# Altium footprint library Mercury_AD_BaseBoard_PCBLIB.PcbLib: 62 footprints (part 4 of 4)
Each footprint in its own frame and in the unit in brackets; x right, y up, seen from the top. Pads: shape width x height; smd on the part's side, far side on the other; paste and mask are expansions set on the pad; w line width, h text height; cw(c..) or ccw(c..) is an arc to the next point about the centre after c.
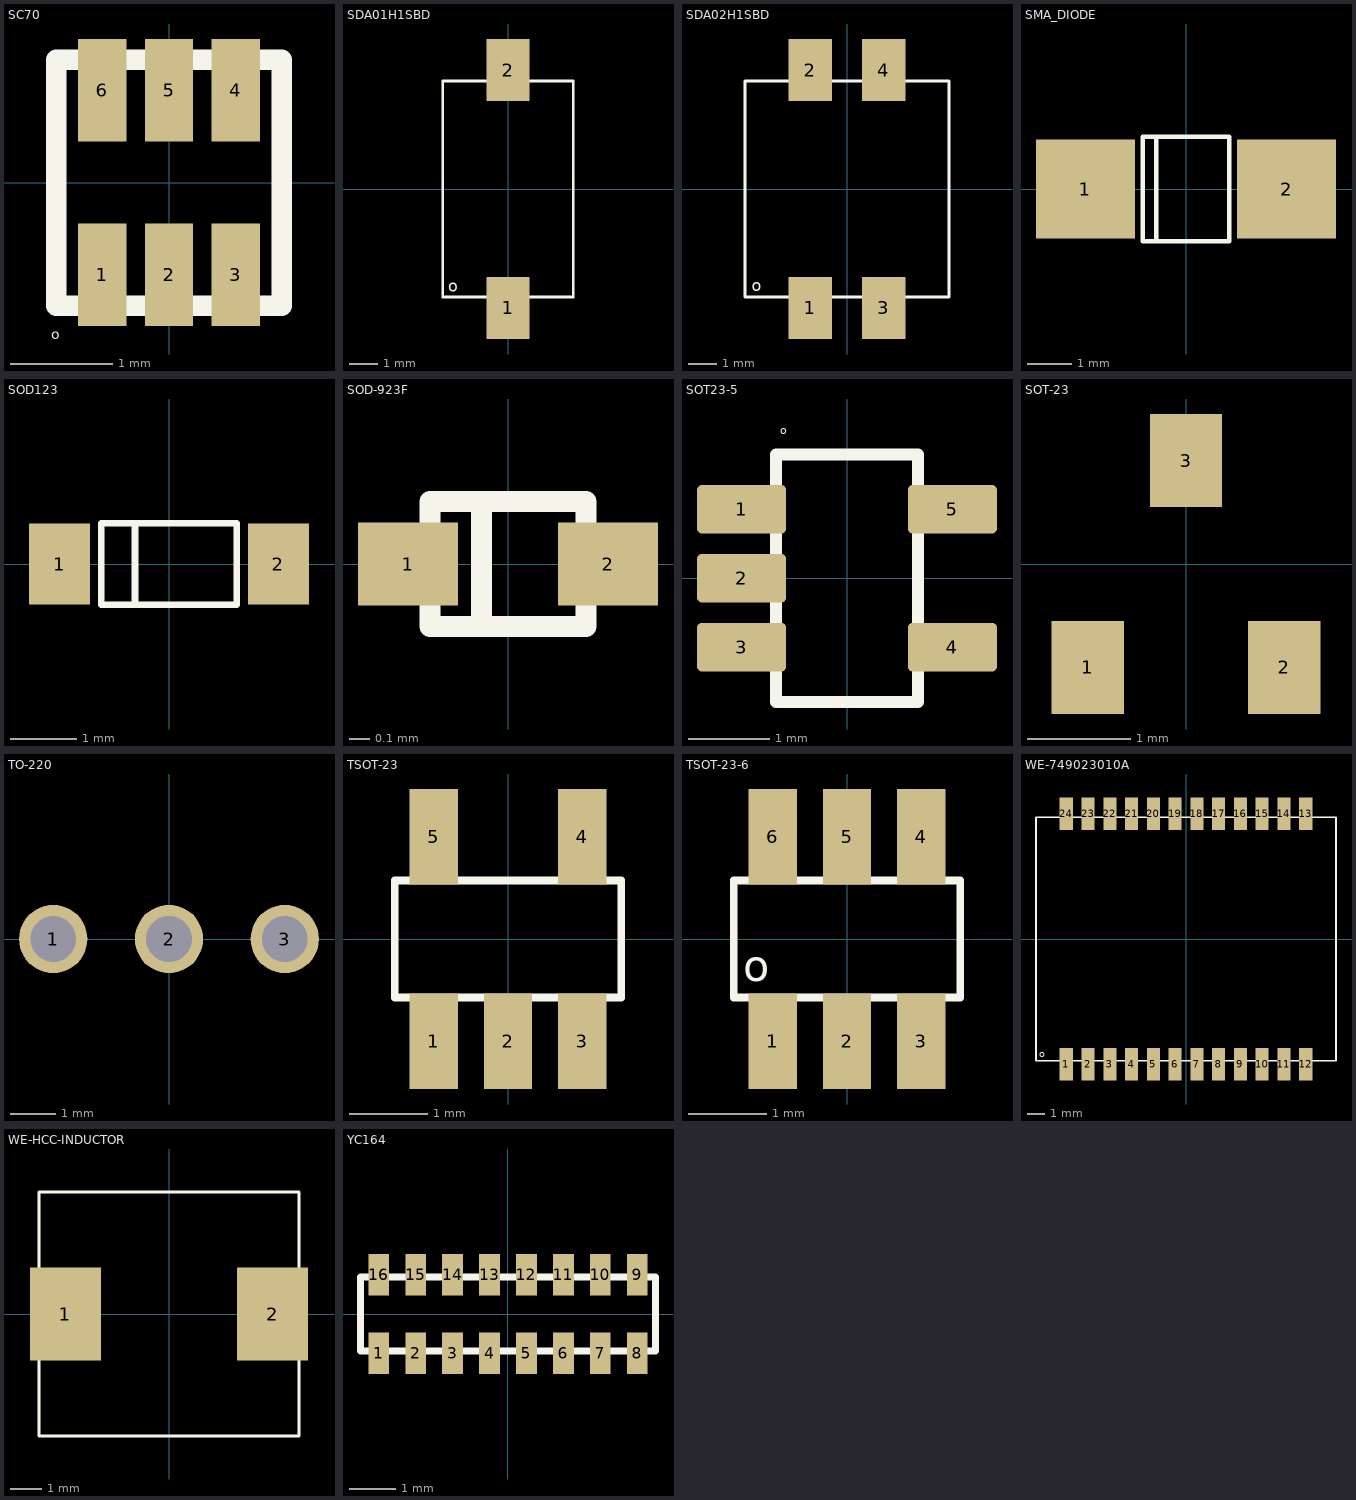
[diagram p3: the footprints below, top view; thin cyan lines are the x and y axes]

## SC70 [mm]
pads (6):
  rect 0.47x1 smd: 1(-0.65,-0.9) 2(0,-0.9) 3(0.65,-0.9) 4(0.65,0.9) 5(0,0.9) 6(-0.65,0.9)
Top Overlay:
  lines w0.2: -1.1,-1.2 -1.1,1.2 1.1,1.2 1.1,-1.2 -1.1,-1.2
  text "o" at -1.15,-1.525 h0.1

## SDA01H1SBD [mm]
pads (2):
  rect 1.5x2.15 smd mask+0.07: 1(0,-4.125) 2(0,4.125)
Top Overlay:
  lines w0.1: -2.26,-3.745 -2.26,3.745 2.26,3.745 2.26,-3.745 -2.26,-3.745
  text "o" at -2.075,-3.56 h0.4

## SDA02H1SBD [mm]
pads (4):
  rect 1.5x2.15 smd mask+0.07: 1(-1.27,-4.125) 2(-1.27,4.125) 3(1.27,-4.125) 4(1.27,4.125)
Top Overlay:
  lines w0.1: -3.53,-3.745 3.53,-3.745 3.53,3.745 -3.53,3.745 -3.53,-3.745
  text "o" at -3.31,-3.54 h0.4

## SMA_DIODE [mil]
pads (2):
  rect 87x87 smd mask+2.76: 1(-88.58,0) 2(88.58,0)
Top Overlay:
  lines w3.94: -26,-45.87 -26,46 ; -38,-45.87 -38,46 38,46 38,-45.87 -38,-45.87

## SOD123 [mil]
pads (2):
  rect 36x48 smd mask+2.76: 1(-64.5,0) 2(64.5,0)
Top Overlay:
  lines w4: -20,-24 -20,24 ; -40,-24 40,-24 40,24 -40,24 -40,-24

## SOD-923F [mm]
pads (2):
  rect 0.48x0.4 smd mask+0.07: 1(-0.48,0) 2(0.48,0)
Top Overlay:
  lines w0.1: -0.127,-0.3 -0.127,0.3 ; -0.375,-0.3 -0.375,0.3 0.375,0.3 0.375,-0.3 -0.375,-0.3

## SOT23-5 [mm]
pads (5):
  rrect20% 1.1x0.6 smd: 1(-1.3,0.85) 2(-1.3,0) 3(-1.3,-0.85) 4(1.3,-0.85) 5(1.3,0.85)
Top Overlay:
  lines w0.15: -0.875,-1.525 -0.875,1.525 0.875,1.525 0.875,-1.525 -0.875,-1.525
  text "o" at -0.825,1.775 h0.1

## SOT-23 [mm]
pads (3):
  rect 0.7x0.9 smd: 1(-0.95,-1) 2(0.95,-1) 3(0,1)

## TO-220 [mm]
pads (3):
  round 1.5 hole 1: 1(-2.54,0) 2(0,0) 3(2.54,0)

## TSOT-23 [mm]
pads (5):
  rect 0.62x1.22 smd mask+0.07: 1(-0.95,-1.31) 2(0,-1.31) 3(0.95,-1.31) 4(0.95,1.31) 5(-0.95,1.31)
Top Overlay:
  lines w0.1: -1.45,-0.75 1.45,-0.75 1.45,0.75 -1.45,0.75 -1.45,-0.75

## TSOT-23-6 [mm]
pads (6):
  rect 0.62x1.22 smd mask+0.07: 1(-0.95,-1.31) 2(0,-1.31) 3(0.95,-1.31) 4(0.95,1.31) 5(0,1.31) 6(-0.95,1.31)
Top Overlay:
  lines w0.1: -1.45,-0.75 -1.45,0.75 1.45,0.75 1.45,-0.75 -1.45,-0.75
  text "o" at -1.329,-0.543 h0.4

## WE-749023010A [mm]
pads (24):
  rect 0.76x1.905 smd mask+0.07: 1(-6.985,-7.302) 2(-5.715,-7.303) 3(-4.445,-7.303) 4(-3.175,-7.303) 5(-1.905,-7.303) 6(-0.635,-7.302) 7(0.635,-7.303) 8(1.905,-7.302) 9(3.175,-7.303) 10(4.445,-7.303) 11(5.715,-7.302) 12(6.985,-7.303) 13(6.985,7.302) 14(5.715,7.303) 15(4.445,7.303) 16(3.175,7.303) 17(1.905,7.303) 18(0.635,7.302) 19(-0.635,7.303) 20(-1.905,7.302) 21(-3.175,7.303) 22(-4.445,7.303) 23(-5.715,7.302) 24(-6.985,7.303)
Top Overlay:
  lines w0.1: -8.75,-7.1 8.75,-7.1 8.75,7.1 -8.75,7.1 -8.75,-7.1
  text "o" at -8.568,-6.893 h0.4

## WE-HCC-INDUCTOR [mm]
pads (2):
  rect 2.3x3 smd mask+0.07: 1(-3.35,0) 2(3.35,0)
Top Overlay:
  lines w0.1: -4.2,-3.95 4.2,-3.95 4.2,3.95 -4.2,3.95 -4.2,-3.95

## YC164 [mm]
pads (16):
  rect 0.45x0.9 smd: 1(-2.8,-0.85) 2(-2,-0.85) 3(-1.2,-0.85) 4(-0.4,-0.85) 5(0.4,-0.85) 6(1.2,-0.85) 7(2,-0.85) 8(2.8,-0.85) 9(2.8,0.85) 10(2,0.85) 11(1.2,0.85) 12(0.4,0.85) 13(-0.4,0.85) 14(-1.2,0.85) 15(-2,0.85) 16(-2.8,0.85)
Top Overlay:
  lines w0.15: -3.2,-0.8 3.2,-0.8 3.2,0.8 -3.2,0.8 -3.2,-0.8